# Altium footprint library Diode6A10.PcbLib: 1 footprints
Each footprint in its own frame and in the unit in brackets; x right, y up, seen from the top. Pads: shape width x height; smd on the part's side, far side on the other; paste and mask are expansions set on the pad; w line width, h text height; cw(c..) or ccw(c..) is an arc to the next point about the centre after c.
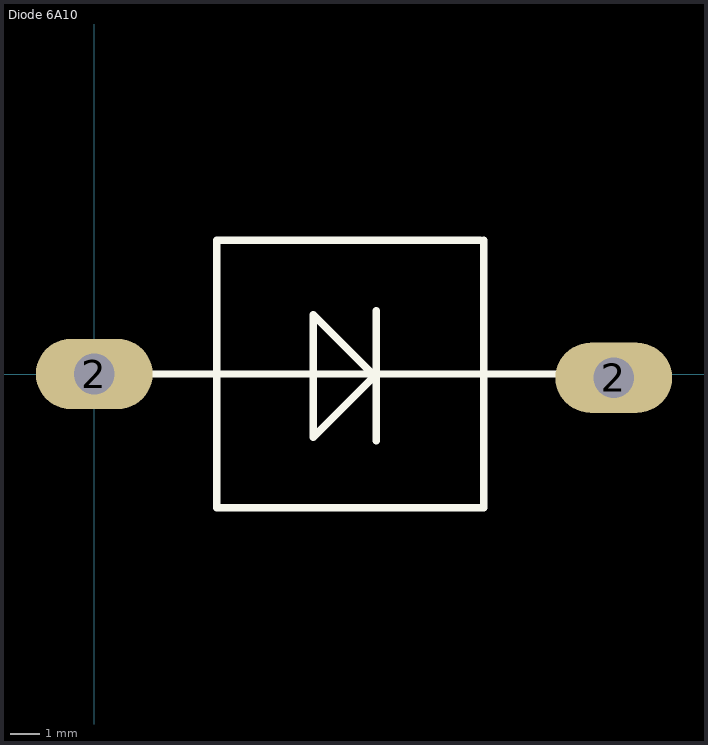
[diagram p0: the footprint, top view; thin cyan lines are the x and y axes]

## Diode 6A10 [mm]
pads (2):
  oval 4x2.4 hole 1.4: 2(0,0) 2(17.78,-0.127)
Top Overlay:
  lines w0.254: 1.397,0 16.51,0 ; 9.525,-0.127 7.493,-2.159 7.493,2.032 9.652,-0.127 ; 9.652,-2.286 9.652,2.159 ; 13.208,4.572 4.191,4.572 4.191,-4.572 13.335,-4.572 13.335,4.572
3D body "CircuitWorks-DIODE0_7.step": height 5.98, standoff -1, extent -0.127,-2.667 17.907,2.413